# Altium schematic symbol library Miscellaneous.SchLib: 8 symbols
Pins are listed as number, name and electrical type; pins without a type are passive.

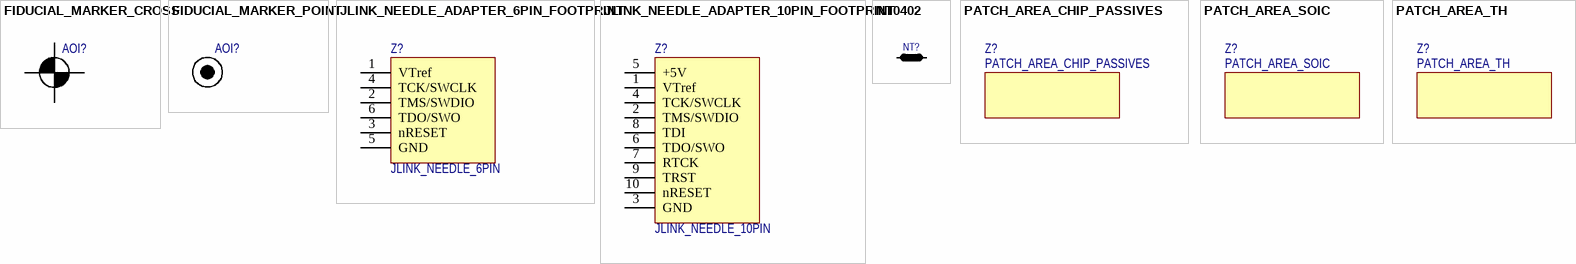
[diagram p0: symbols FIDUCIAL_MARKER_CROSS to PATCH_AREA_TH]

## FIDUCIAL_MARKER_CROSS
designator AOI?  (value not drawn)  (no BOM)
Assembly AOI; Manufacturer: *; Manufacturer  Part Number: *; Supplier 1: *; Supplier Part Number 1: *; Value: FIDUCIAL_MARKER_CROSS
footprint FIDUCIAL_MARKER_CROSS

## FIDUCIAL_MARKER_POINT
designator AOI?  (value not drawn)  (no BOM)
Assembly AOI; Manufacturer: *; Manufacturer  Part Number: *; Supplier 1: *; Supplier Part Number 1: *; Value: FIDUCIAL_MARKER_POINT
footprint FIDUCIAL_MARKER_POINT

## JLINK_NEEDLE_ADAPTER_6PIN_FOOTPRINT
designator Z?, comment value JLINK_NEEDLE_6PIN  (hidden comment: 8.06.16 J-LINK 6-PIN NEEDLE ADAPTER)  (no BOM)
6-PIN NEEDLE FOOTPRINT; Manufacturer: Segger Microcontroller Systems; ComponentLink1Description: Supplier Info; ComponentLink1URL: https://www.digikey.co.uk/en/products/detail/segger-microcontroller-systems/8-06-16-J-LINK-6-PIN-NEEDLE-ADAPTER/7063168?s=N4IgTCBcDaIGwFoAKBJAcgAjQUWwEQBlsMBBPEpAFWwCUQBdAXyA; ComponentLink2Description: Datasheet; ComponentLink2URL: https://www.segger.com/products/debug-probes/j-link/accessories/adapters/6-pin-needle-adapter/#footprint; Manufacturer  Part Number: 8.06.16 J-LINK 6-PIN NEEDLE ADAPTER; Supplier 1: Digi-key; Supplier Part Number 1: 899-1051-ND
footprint JLINK_NEEDLE_6PIN
pins: 1 VTref, 2 TMS/SWDIO, 3 nRESET, 4 TCK/SWCLK, 5 GND, 6 TDO/SWO

## JLINK_NEEDLE_ADAPTER_10PIN_FOOTPRINT
designator Z?, comment value JLINK_NEEDLE_10PIN  (hidden comment: 8.06.05 10-PIN NEEDLE ADAPTER)  (no BOM)
10-PIN NEEDLE FOOTPRINT; Manufacturer: Segger Microcontroller Systems; ComponentLink1Description: Supplier Info; ComponentLink1URL: https://www.digikey.de/product-detail/en/segger-microcontroller-systems/8.06.05-10-PIN-NEEDLE-ADAPTER/8.06.0510-PINNEEDLEADAPTER-ND/3202465; ComponentLink2Description: Datasheet; ComponentLink2URL: https://www.segger.com/products/debug-probes/j-link/accessories/adapters/6-pin-needle-adapter/#tab-1647-4; Manufacturer  Part Number: 8.06.05 10-PIN NEEDLE ADAPTER; Supplier 1: Digi-key; Supplier Part Number 1: 8.06.0510-PINNEEDLEADAPTER-ND
footprint JLINK_NEEDLE_10PIN
pins: 1 VTref, 2 TMS/SWDIO, 3 GND, 4 TCK/SWCLK, 5 +5V, 6 TDO/SWO, 7 RTCK, 8 TDI, 9 TRST, 10 nRESET

## NT0402
designator NT?  (value not drawn)  (net tie, no BOM)
Net Tie with size 0402; Manufacturer: *; Manufacturer  Part Number: *; Supplier 1: *; Supplier Part Number 1: *; Value: NT0402
footprint NT0402 (Net Tie with size 0402)
pins: 1, 2

## PATCH_AREA_CHIP_PASSIVES
designator Z?  (no BOM)
Patch Area for Chip passive components (Capacitors, Resistors, Inductances, etc.); Compatible for 0603, 0805, 1206 and 1210 cases; Manufacturer: *; Manufacturer  Part Number: *; Supplier 1: *; Supplier Part Number 1: *; Value: PATCH_AREA_CHIP_PASSIVES
footprint PATCH_AREA_CHIP_PASSIVES (Patch Area for Chip passive components (Capacitors, Resistors, Inductances, etc.); Compatible for 0603, 0805, 1206 and 1210 cases)

## PATCH_AREA_SOIC
designator Z?  (no BOM)
Patch Area for SOIC package devices; Compatible with NB and WB from SOIC8 to SOIC28; Manufacturer: *; Manufacturer  Part Number: *; Supplier 1: *; Supplier Part Number 1: *; Value: PATCH_AREA_SOIC
footprint PATCH_AREA_SOIC (Patch Area for SOIC package devices; Compatible with NB and WB from SOIC8 to SOIC28)

## PATCH_AREA_TH
designator Z?  (no BOM)
Patch Area with TH; Size 60x50mm; Manufacturer: *; Manufacturer  Part Number: *; Supplier 1: *; Supplier Part Number 1: *; Value: PATCH_AREA_TH
footprint PATCH_AREA_TH (Patch Area with TH; Size 60x50mm)